# Altium footprint library PcblibPH.PcbLib: 18 footprints (part 2 of 2)
Each footprint in its own frame and in the unit in brackets; x right, y up, seen from the top. Pads: shape width x height; smd on the part's side, far side on the other; paste and mask are expansions set on the pad; w line width, h text height; cw(c..) or ccw(c..) is an arc to the next point about the centre after c.
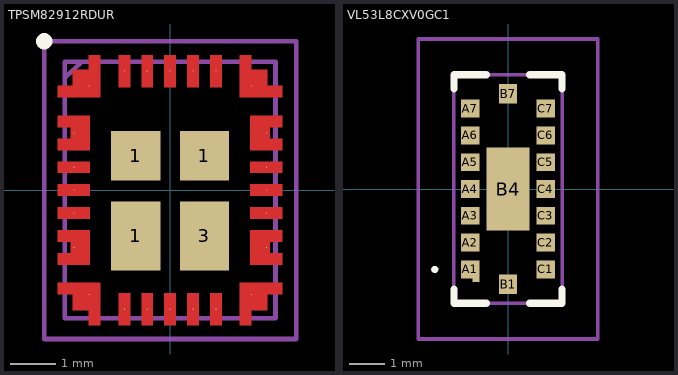
[diagram p1: the footprints below, top view; thin cyan lines are the x and y axes]

## TPSM82912RDUR [mm] "Switching Voltage Regulators 17-V, 2-A low-noise and low-ripple buck module with integrated ferrite bead filter compensation 28-B0QFN -40 to 125"
height 1.8
pads (28):
  round 0.025 smd: 1(-2.1,-1.25) 1(-2.1,-0.5) 1(-2.1,0.5) 1(-2.1,1.25) 1(-1.775,-2.275) 1(-1.775,2.275) 1(-1,-2.6) 1(-0.5,-2.6) 1(2.1,0) 1(2.1,0.5) 2(-2.1,0) 3(0,-2.6) 3(0.5,-2.6) 3(1,-2.6) 3(1.775,-2.275) 3(2.1,-1.25) 3(2.1,-0.5) 4(2.1,1.25) 5(1.775,2.275) 6(1,2.6) 7(0.5,2.6) 8(0,2.6) 9(-0.5,2.6) 10(-1,2.6)
  rect 1.08x1.51 smd: 1(-0.75,-1) 3(0.75,-1)
  rect 1.08x1.08 smd: 1(-0.75,0.75) 1(0.75,0.75)
Top Layer:
  region: -1.825,2.025 -1.525,2.025 -1.525,2.95 -1.775,2.95 -1.775,2.625 -2.125,2.625 -2.125,2.275 -2.45,2.275 -2.45,2.025 -1.625,2.025
  region: -0.375,2.25 -0.375,2.95 -0.625,2.95 -0.625,2.25
  region: 0.125,2.25 0.125,2.95 -0.125,2.95 -0.125,2.25
  region: -0.875,2.25 -0.875,2.95 -1.125,2.95 -1.125,2.25
  region: 1.125,2.25 1.125,2.95 0.875,2.95 0.875,2.25
  region: 0.625,2.25 0.625,2.95 0.375,2.95 0.375,2.25
  region: 2.45,0.125 1.75,0.125 1.75,-0.125 2.45,-0.125
  region: 2.45,0.625 1.75,0.625 1.75,0.375 2.45,0.375
  region: 2.45,-0.375 1.75,-0.375 1.75,-0.625 2.45,-0.625
  region: 1.75,0.875 2.45,0.875 2.45,1.125 2.175,1.125 2.175,1.375 2.45,1.375 2.45,1.625 1.75,1.625
  region: 1.75,-1.625 2.45,-1.625 2.45,-1.375 2.175,-1.375 2.175,-1.125 2.45,-1.125 2.45,-0.875 1.75,-0.875
  region: -2.45,-0.125 -1.75,-0.125 -1.75,0.125 -2.45,0.125
  region: -2.45,-0.625 -1.75,-0.625 -1.75,-0.375 -2.45,-0.375
  region: -2.45,0.375 -1.75,0.375 -1.75,0.625 -2.45,0.625
  region: -1.75,-0.875 -2.45,-0.875 -2.45,-1.125 -2.175,-1.125 -2.175,-1.375 -2.45,-1.375 -2.45,-1.625 -1.75,-1.625
  region: -1.75,1.625 -2.45,1.625 -2.45,1.375 -2.175,1.375 -2.175,1.125 -2.45,1.125 -2.45,0.875 -1.75,0.875
  region: 1.525,2.325 1.525,2.025 2.45,2.025 2.45,2.275 2.125,2.275 2.125,2.625 1.775,2.625 1.775,2.95 1.525,2.95 1.525,2.125
  region: 1.825,-2.025 1.525,-2.025 1.525,-2.95 1.775,-2.95 1.775,-2.625 2.125,-2.625 2.125,-2.275 2.45,-2.275 2.45,-2.025 1.625,-2.025
  region: 0.375,-2.25 0.375,-2.95 0.625,-2.95 0.625,-2.25
  region: 0.875,-2.25 0.875,-2.95 1.125,-2.95 1.125,-2.25
  region: -1.125,-2.25 -1.125,-2.95 -0.875,-2.95 -0.875,-2.25
  region: -0.625,-2.25 -0.625,-2.95 -0.375,-2.95 -0.375,-2.25
  region: -1.525,-2.325 -1.525,-2.025 -2.45,-2.025 -2.45,-2.275 -2.125,-2.275 -2.125,-2.625 -1.775,-2.625 -1.775,-2.95 -1.525,-2.95 -1.525,-2.125
  region: -0.125,-2.25 -0.125,-2.95 0.125,-2.95 0.125,-2.25
Top Overlay:
  circle w0.254: c-2.75,3.25 r0.05
Mechanical 15:
  lines w0.1: -2.3,2.45 -1.925,2.8 ; -2.3,-2.8 -2.3,2.8 2.3,2.8 2.3,-2.8 -2.3,-2.8
Mechanical 20:
  lines w0.1: -2.75,-3.25 2.75,-3.25 2.75,3.25 -2.75,3.25 -2.75,-3.25
3D body: height 1.8, standoff 0, extent -2.3,-2.8 2.3,2.8

## VL53L8CXV0GC1 [mm]
height 1.796
pads (18):
  rect 0.2x0.1 smd: 1(-0.9,-2.55)
  rect 0.515x0.5 smd: A1(-1.058,-2.25) A2(-1.058,-1.5) A3(-1.058,-0.75) A4(-1.058,0) A5(-1.058,0.75) A6(-1.058,1.5) A7(-1.058,2.25) C1(1.058,-2.25) C2(1.058,-1.5) C3(1.058,-0.75) C4(1.058,0) C5(1.058,0.75) C6(1.058,1.5) C7(1.058,2.25)
  rect 0.5x0.535 smd: B1(0,-2.668) B7(0,2.668)
  rect 1.2x2.316 smd: B4(0,0)
Top Overlay:
  lines w0.1: -2.1,-2.25 ccw(c-2.05,-2.25) -2,-2.25 ccw(c-2.05,-2.25) -2.1,-2.25
  lines w0.2: -1.515,-2.8 -1.515,-3.2 -0.6,-3.2 ; -1.515,2.8 -1.515,3.2 -0.6,3.2 ; 0.6,-3.2 1.515,-3.2 1.515,-2.8 ; 0.6,3.2 1.515,3.2 1.515,2.8
Mechanical 15:
  lines w0.1: -1.515,-3.2 1.515,-3.2 1.515,3.2 -1.515,3.2 -1.515,-3.2
Mechanical 20:
  lines w0.1: -2.515,-4.2 2.515,-4.2 2.515,4.2 -2.515,4.2 -2.515,-4.2
3D body "VL53L8CXV0GC_1.stp": height 1.75, standoff 0, extent -1.515,-3.2 1.515,3.2